# Altium footprint library MIZ.PcbLib: 8 footprints
Each footprint in its own frame and in the unit in brackets; x right, y up, seen from the top. Pads: shape width x height; smd on the part's side, far side on the other; paste and mask are expansions set on the pad; w line width, h text height; cw(c..) or ccw(c..) is an arc to the next point about the centre after c.
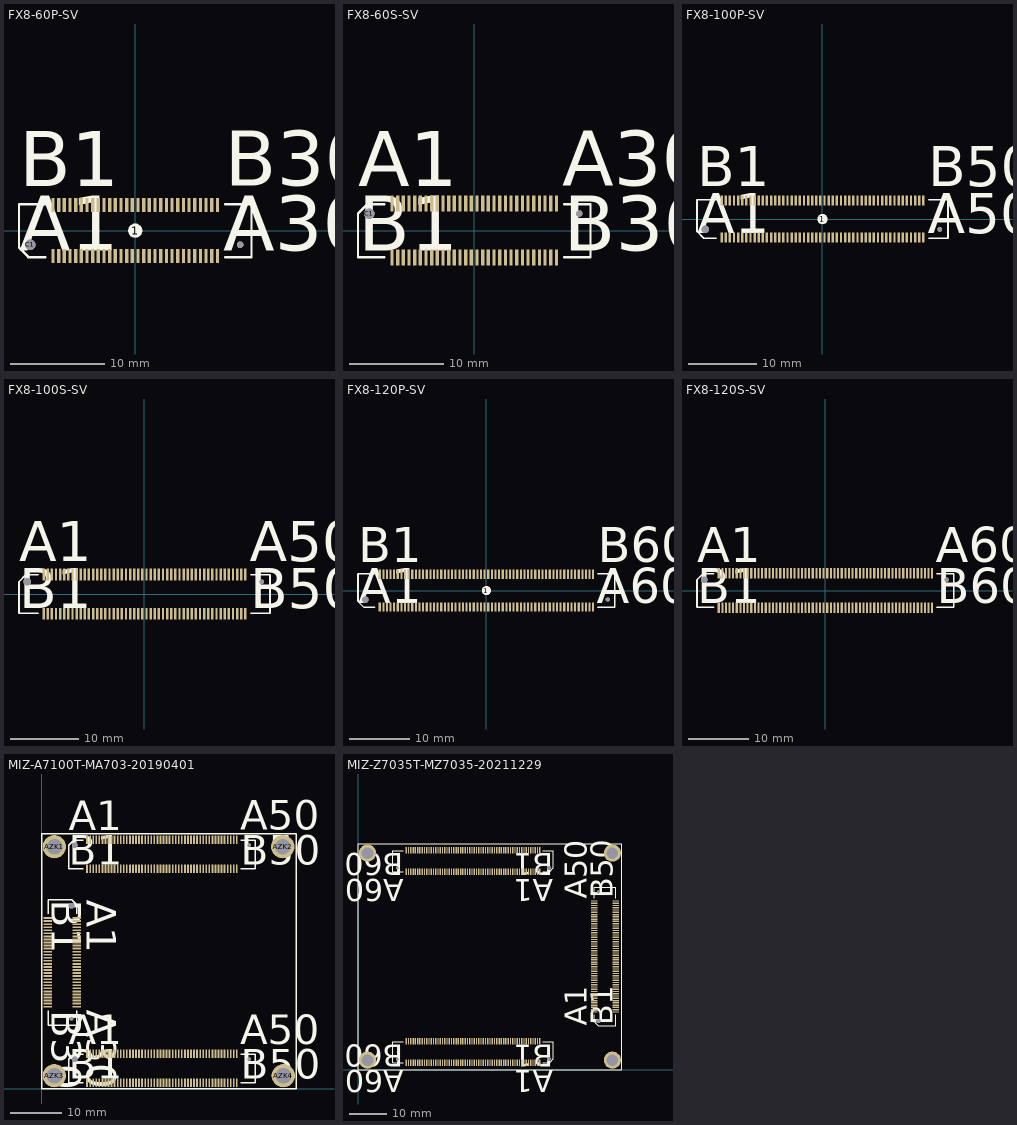
[diagram p0: the footprints below, top view; thin cyan lines are the x and y axes]

## FX8-60P-SV [mm]
pads (63):
  round 1.524 on Top Overlay: 1(0,0)
  rect 0.35x1.5 smd: A1(-8.7,-2.7) A2(-8.1,-2.7) A3(-7.5,-2.7) A4(-6.9,-2.7) A5(-6.3,-2.7) A6(-5.7,-2.7) A7(-5.1,-2.7) A8(-4.5,-2.7) A9(-3.9,-2.7) A10(-3.3,-2.7) A11(-2.7,-2.7) A12(-2.1,-2.7) A13(-1.5,-2.7) A14(-0.9,-2.7) A15(-0.3,-2.7) A16(0.3,-2.7) A17(0.9,-2.7) A18(1.5,-2.7) A19(2.1,-2.7) A20(2.7,-2.7) A21(3.3,-2.7) A22(3.9,-2.7) A23(4.5,-2.7) A24(5.1,-2.7) A25(5.7,-2.7) A26(6.3,-2.7) A27(6.9,-2.7) A28(7.5,-2.7) A29(8.1,-2.7) A30(8.7,-2.7) B1(-8.7,2.7) B2(-8.1,2.7) B3(-7.5,2.7) B4(-6.9,2.7) B5(-6.3,2.7) B6(-5.7,2.7) B7(-5.1,2.7) B8(-4.5,2.7) B9(-3.9,2.7) B10(-3.3,2.7) B11(-2.7,2.7) B12(-2.1,2.7) B13(-1.5,2.7) B14(-0.9,2.7) B15(-0.3,2.7) B16(0.3,2.7) B17(0.9,2.7) B18(1.5,2.7) B19(2.1,2.7) B20(2.7,2.7) B21(3.3,2.7) B22(3.9,2.7) B23(4.5,2.7) B24(5.1,2.7) B25(5.7,2.7) B26(6.3,2.7) B27(6.9,2.7) B28(7.5,2.7) B29(8.1,2.7) B30(8.7,2.7)
  round 1.1 hole 1.1: C1(-11.1,-1.5)
  round 0.7 hole 0.7: C2(11.1,-1.5)
Top Overlay:
  lines w0.254: -9.5,-2.8 -11.3,-2.8 -12.3,-1.8 -12.3,2.8 -9.5,2.8 ; 9.5,-2.8 12.3,-2.8 12.3,2.8 9.5,2.8
  text "B1" at -12.3,2.8 h10
  text "A30" at 9.328,-4.013 h10
  text "B30" at 9.448,2.819 h10
  text "A1" at -12.3,-4.013 h10

## FX8-60S-SV [mm]
pads (62):
  rect 0.35x1.7 smd: A1(-8.7,2.85) A2(-8.1,2.85) A3(-7.5,2.85) A4(-6.9,2.85) A5(-6.3,2.85) A6(-5.7,2.85) A7(-5.1,2.85) A8(-4.5,2.85) A9(-3.9,2.85) A10(-3.3,2.85) A11(-2.7,2.85) A12(-2.1,2.85) A13(-1.5,2.85) A14(-0.9,2.85) A15(-0.3,2.85) A16(0.3,2.85) A17(0.9,2.85) A18(1.5,2.85) A19(2.1,2.85) A20(2.7,2.85) A21(3.3,2.85) A22(3.9,2.85) A23(4.5,2.85) A24(5.1,2.85) A25(5.7,2.85) A26(6.3,2.85) A27(6.9,2.85) A28(7.5,2.85) A29(8.1,2.85) A30(8.7,2.85) B1(-8.7,-2.85) B2(-8.1,-2.85) B3(-7.5,-2.85) B4(-6.9,-2.85) B5(-6.3,-2.85) B6(-5.7,-2.85) B7(-5.1,-2.85) B8(-4.5,-2.85) B9(-3.9,-2.85) B10(-3.3,-2.85) B11(-2.7,-2.85) B12(-2.1,-2.85) B13(-1.5,-2.85) B14(-0.9,-2.85) B15(-0.3,-2.85) B16(0.3,-2.85) B17(0.9,-2.85) B18(1.5,-2.85) B19(2.1,-2.85) B20(2.7,-2.85) B21(3.3,-2.85) B22(3.9,-2.85) B23(4.5,-2.85) B24(5.1,-2.85) B25(5.7,-2.85) B26(6.3,-2.85) B27(6.9,-2.85) B28(7.5,-2.85) B29(8.1,-2.85) B30(8.7,-2.85)
  round 1.1 hole 1.1: C1(-11.1,1.8)
  round 0.7 hole 0.7: C2(11.1,1.8)
Top Overlay:
  lines w0.254: -9.5,-2.8 -12.3,-2.8 -12.3,1.8 -11.3,2.8 -9.5,2.8 ; 9.5,-2.8 12.3,-2.8 12.3,2.8 9.5,2.8
  text "A1" at -12.3,2.8 h10
  text "B30" at 9.448,-4.013 h10
  text "A30" at 9.328,2.819 h10
  text "B1" at -12.291,-4.013 h10

## FX8-100P-SV [mm]
pads (103):
  round 1.524 on Top Overlay: 1(0,0)
  rect 0.35x1.5 smd: A1(-14.7,-2.7) A2(-14.1,-2.7) A3(-13.5,-2.7) A4(-12.9,-2.7) A5(-12.3,-2.7) A6(-11.7,-2.7) A7(-11.1,-2.7) A8(-10.5,-2.7) A9(-9.9,-2.7) A10(-9.3,-2.7) A11(-8.7,-2.7) A12(-8.1,-2.7) A13(-7.5,-2.7) A14(-6.9,-2.7) A15(-6.3,-2.7) A16(-5.7,-2.7) A17(-5.1,-2.7) A18(-4.5,-2.7) A19(-3.9,-2.7) A20(-3.3,-2.7) A21(-2.7,-2.7) A22(-2.1,-2.7) A23(-1.5,-2.7) A24(-0.9,-2.7) A25(-0.3,-2.7) A26(0.3,-2.7) A27(0.9,-2.7) A28(1.5,-2.7) A29(2.1,-2.7) A30(2.7,-2.7) A31(3.3,-2.7) A32(3.9,-2.7) A33(4.5,-2.7) A34(5.1,-2.7) A35(5.7,-2.7) A36(6.3,-2.7) A37(6.9,-2.7) A38(7.5,-2.7) A39(8.1,-2.7) A40(8.7,-2.7) A41(9.3,-2.7) A42(9.9,-2.7) A43(10.5,-2.7) A44(11.1,-2.7) A45(11.7,-2.7) A46(12.3,-2.7) A47(12.9,-2.7) A48(13.5,-2.7) A49(14.1,-2.7) A50(14.7,-2.7) B1(-14.7,2.7) B2(-14.1,2.7) B3(-13.5,2.7) B4(-12.9,2.7) B5(-12.3,2.7) B6(-11.7,2.7) B7(-11.1,2.7) B8(-10.5,2.7) B9(-9.9,2.7) B10(-9.3,2.7) B11(-8.7,2.7) B12(-8.1,2.7) B13(-7.5,2.7) B14(-6.9,2.7) B15(-6.3,2.7) B16(-5.7,2.7) B17(-5.1,2.7) B18(-4.5,2.7) B19(-3.9,2.7) B20(-3.3,2.7) B21(-2.7,2.7) B22(-2.1,2.7) B23(-1.5,2.7) B24(-0.9,2.7) B25(-0.3,2.7) B26(0.3,2.7) B27(0.9,2.7) B28(1.5,2.7) B29(2.1,2.7) B30(2.7,2.7) B31(3.3,2.7) B32(3.9,2.7) B33(4.5,2.7) B34(5.1,2.7) B35(5.7,2.7) B36(6.3,2.7) B37(6.9,2.7) B38(7.5,2.7) B39(8.1,2.7) B40(8.7,2.7) B41(9.3,2.7) B42(9.9,2.7) B43(10.5,2.7) B44(11.1,2.7) B45(11.7,2.7) B46(12.3,2.7) B47(12.9,2.7) B48(13.5,2.7) B49(14.1,2.7) B50(14.7,2.7)
  round 1.1 hole 1.1: C1(-17.1,-1.5)
  round 0.7 hole 0.7: C2(17.1,-1.5)
Top Overlay:
  lines w0.254: -15.5,-2.8 -17.3,-2.8 -18.3,-1.8 -18.3,2.8 -15.5,2.8 ; 15.5,-2.8 18.3,-2.8 18.3,2.8 15.5,2.8
  text "A1" at -18.3,-4.013 h10
  text "B50" at 15.448,2.819 h10
  text "A50" at 15.328,-4.05 h10
  text "B1" at -18.3,2.8 h10

## FX8-100S-SV [mm]
pads (102):
  rect 0.35x1.7 smd: A1(-14.7,2.85) A2(-14.1,2.85) A3(-13.5,2.85) A4(-12.9,2.85) A5(-12.3,2.85) A6(-11.7,2.85) A7(-11.1,2.85) A8(-10.5,2.85) A9(-9.9,2.85) A10(-9.3,2.85) A11(-8.7,2.85) A12(-8.1,2.85) A13(-7.5,2.85) A14(-6.9,2.85) A15(-6.3,2.85) A16(-5.7,2.85) A17(-5.1,2.85) A18(-4.5,2.85) A19(-3.9,2.85) A20(-3.3,2.85) A21(-2.7,2.85) A22(-2.1,2.85) A23(-1.5,2.85) A24(-0.9,2.85) A25(-0.3,2.85) A26(0.3,2.85) A27(0.9,2.85) A28(1.5,2.85) A29(2.1,2.85) A30(2.7,2.85) A31(3.3,2.85) A32(3.9,2.85) A33(4.5,2.85) A34(5.1,2.85) A35(5.7,2.85) A36(6.3,2.85) A37(6.9,2.85) A38(7.5,2.85) A39(8.1,2.85) A40(8.7,2.85) A41(9.3,2.85) A42(9.9,2.85) A43(10.5,2.85) A44(11.1,2.85) A45(11.7,2.85) A46(12.3,2.85) A47(12.9,2.85) A48(13.5,2.85) A49(14.1,2.85) A50(14.7,2.85) B1(-14.7,-2.85) B2(-14.1,-2.85) B3(-13.5,-2.85) B4(-12.9,-2.85) B5(-12.3,-2.85) B6(-11.7,-2.85) B7(-11.1,-2.85) B8(-10.5,-2.85) B9(-9.9,-2.85) B10(-9.3,-2.85) B11(-8.7,-2.85) B12(-8.1,-2.85) B13(-7.5,-2.85) B14(-6.9,-2.85) B15(-6.3,-2.85) B16(-5.7,-2.85) B17(-5.1,-2.85) B18(-4.5,-2.85) B19(-3.9,-2.85) B20(-3.3,-2.85) B21(-2.7,-2.85) B22(-2.1,-2.85) B23(-1.5,-2.85) B24(-0.9,-2.85) B25(-0.3,-2.85) B26(0.3,-2.85) B27(0.9,-2.85) B28(1.5,-2.85) B29(2.1,-2.85) B30(2.7,-2.85) B31(3.3,-2.85) B32(3.9,-2.85) B33(4.5,-2.85) B34(5.1,-2.85) B35(5.7,-2.85) B36(6.3,-2.85) B37(6.9,-2.85) B38(7.5,-2.85) B39(8.1,-2.85) B40(8.7,-2.85) B41(9.3,-2.85) B42(9.9,-2.85) B43(10.5,-2.85) B44(11.1,-2.85) B45(11.7,-2.85) B46(12.3,-2.85) B47(12.9,-2.85) B48(13.5,-2.85) B49(14.1,-2.85) B50(14.7,-2.85)
  round 1.1 hole 1.1: C1(-17.1,1.8)
  round 0.7 hole 0.7: C2(17.1,1.8)
Top Overlay:
  lines w0.254: -15.5,-2.8 -18.3,-2.8 -18.3,1.8 -17.3,2.8 -15.5,2.8 ; 15.5,-2.8 18.3,-2.8 18.3,2.8 15.5,2.8
  text "A1" at -18.3,2.8 h10
  text "B50" at 15.448,-4.05 h10
  text "A50" at 15.328,2.819 h10
  text "B1" at -18.291,-4.013 h10

## FX8-120P-SV [mm]
pads (123):
  round 1.524 on Top Overlay: 1(0,0)
  rect 0.35x1.5 smd: A1(-17.7,-2.7) A2(-17.1,-2.7) A3(-16.5,-2.7) A4(-15.9,-2.7) A5(-15.3,-2.7) A6(-14.7,-2.7) A7(-14.1,-2.7) A8(-13.5,-2.7) A9(-12.9,-2.7) A10(-12.3,-2.7) A11(-11.7,-2.7) A12(-11.1,-2.7) A13(-10.5,-2.7) A14(-9.9,-2.7) A15(-9.3,-2.7) A16(-8.7,-2.7) A17(-8.1,-2.7) A18(-7.5,-2.7) A19(-6.9,-2.7) A20(-6.3,-2.7) A21(-5.7,-2.7) A22(-5.1,-2.7) A23(-4.5,-2.7) A24(-3.9,-2.7) A25(-3.3,-2.7) A26(-2.7,-2.7) A27(-2.1,-2.7) A28(-1.5,-2.7) A29(-0.9,-2.7) A30(-0.3,-2.7) A31(0.3,-2.7) A32(0.9,-2.7) A33(1.5,-2.7) A34(2.1,-2.7) A35(2.7,-2.7) A36(3.3,-2.7) A37(3.9,-2.7) A38(4.5,-2.7) A39(5.1,-2.7) A40(5.7,-2.7) A41(6.3,-2.7) A42(6.9,-2.7) A43(7.5,-2.7) A44(8.1,-2.7) A45(8.7,-2.7) A46(9.3,-2.7) A47(9.9,-2.7) A48(10.5,-2.7) A49(11.1,-2.7) A50(11.7,-2.7) A51(12.3,-2.7) A52(12.9,-2.7) A53(13.5,-2.7) A54(14.1,-2.7) A55(14.7,-2.7) A56(15.3,-2.7) A57(15.9,-2.7) A58(16.5,-2.7) A59(17.1,-2.7) A60(17.7,-2.7) B1(-17.7,2.7) B2(-17.1,2.7) B3(-16.5,2.7) B4(-15.9,2.7) B5(-15.3,2.7) B6(-14.7,2.7) B7(-14.1,2.7) B8(-13.5,2.7) B9(-12.9,2.7) B10(-12.3,2.7) B11(-11.7,2.7) B12(-11.1,2.7) B13(-10.5,2.7) B14(-9.9,2.7) B15(-9.3,2.7) B16(-8.7,2.7) B17(-8.1,2.7) B18(-7.5,2.7) B19(-6.9,2.7) B20(-6.3,2.7) B21(-5.7,2.7) B22(-5.1,2.7) B23(-4.5,2.7) B24(-3.9,2.7) B25(-3.3,2.7) B26(-2.7,2.7) B27(-2.1,2.7) B28(-1.5,2.7) B29(-0.9,2.7) B30(-0.3,2.7) B31(0.3,2.7) B32(0.9,2.7) B33(1.5,2.7) B34(2.1,2.7) B35(2.7,2.7) B36(3.3,2.7) B37(3.9,2.7) B38(4.5,2.7) B39(5.1,2.7) B40(5.7,2.7) B41(6.3,2.7) B42(6.9,2.7) B43(7.5,2.7) B44(8.1,2.7) B45(8.7,2.7) B46(9.3,2.7) B47(9.9,2.7) B48(10.5,2.7) B49(11.1,2.7) B50(11.7,2.7) B51(12.3,2.7) B52(12.9,2.7) B53(13.5,2.7) B54(14.1,2.7) B55(14.7,2.7) B56(15.3,2.7) B57(15.9,2.7) B58(16.5,2.7) B59(17.1,2.7) B60(17.7,2.7)
  round 1.1 hole 1.1: C1(-20.1,-1.5)
  round 0.7 hole 0.7: C2(20.1,-1.5)
Top Overlay:
  lines w0.254: -18.5,-2.8 -20.3,-2.8 -21.3,-1.8 -21.3,2.8 -18.5,2.8 ; 18.5,-2.8 21.3,-2.8 21.3,2.8 18.5,2.8
  text "A1" at -21.3,-4.013 h10
  text "B60" at 18.448,2.819 h10
  text "A60" at 18.328,-4.013 h10
  text "B1" at -21.3,2.8 h10

## FX8-120S-SV [mm]
pads (122):
  rect 0.35x1.7 smd: A1(-17.7,2.85) A2(-17.1,2.85) A3(-16.5,2.85) A4(-15.9,2.85) A5(-15.3,2.85) A6(-14.7,2.85) A7(-14.1,2.85) A8(-13.5,2.85) A9(-12.9,2.85) A10(-12.3,2.85) A11(-11.7,2.85) A12(-11.1,2.85) A13(-10.5,2.85) A14(-9.9,2.85) A15(-9.3,2.85) A16(-8.7,2.85) A17(-8.1,2.85) A18(-7.5,2.85) A19(-6.9,2.85) A20(-6.3,2.85) A21(-5.7,2.85) A22(-5.1,2.85) A23(-4.5,2.85) A24(-3.9,2.85) A25(-3.3,2.85) A26(-2.7,2.85) A27(-2.1,2.85) A28(-1.5,2.85) A29(-0.9,2.85) A30(-0.3,2.85) A31(0.3,2.85) A32(0.9,2.85) A33(1.5,2.85) A34(2.1,2.85) A35(2.7,2.85) A36(3.3,2.85) A37(3.9,2.85) A38(4.5,2.85) A39(5.1,2.85) A40(5.7,2.85) A41(6.3,2.85) A42(6.9,2.85) A43(7.5,2.85) A44(8.1,2.85) A45(8.7,2.85) A46(9.3,2.85) A47(9.9,2.85) A48(10.5,2.85) A49(11.1,2.85) A50(11.7,2.85) A51(12.3,2.85) A52(12.9,2.85) A53(13.5,2.85) A54(14.1,2.85) A55(14.7,2.85) A56(15.3,2.85) A57(15.9,2.85) A58(16.5,2.85) A59(17.1,2.85) A60(17.7,2.85) B1(-17.7,-2.85) B2(-17.1,-2.85) B3(-16.5,-2.85) B4(-15.9,-2.85) B5(-15.3,-2.85) B6(-14.7,-2.85) B7(-14.1,-2.85) B8(-13.5,-2.85) B9(-12.9,-2.85) B10(-12.3,-2.85) B11(-11.7,-2.85) B12(-11.1,-2.85) B13(-10.5,-2.85) B14(-9.9,-2.85) B15(-9.3,-2.85) B16(-8.7,-2.85) B17(-8.1,-2.85) B18(-7.5,-2.85) B19(-6.9,-2.85) B20(-6.3,-2.85) B21(-5.7,-2.85) B22(-5.1,-2.85) B23(-4.5,-2.85) B24(-3.9,-2.85) B25(-3.3,-2.85) B26(-2.7,-2.85) B27(-2.1,-2.85) B28(-1.5,-2.85) B29(-0.9,-2.85) B30(-0.3,-2.85) B31(0.3,-2.85) B32(0.9,-2.85) B33(1.5,-2.85) B34(2.1,-2.85) B35(2.7,-2.85) B36(3.3,-2.85) B37(3.9,-2.85) B38(4.5,-2.85) B39(5.1,-2.85) B40(5.7,-2.85) B41(6.3,-2.85) B42(6.9,-2.85) B43(7.5,-2.85) B44(8.1,-2.85) B45(8.7,-2.85) B46(9.3,-2.85) B47(9.9,-2.85) B48(10.5,-2.85) B49(11.1,-2.85) B50(11.7,-2.85) B51(12.3,-2.85) B52(12.9,-2.85) B53(13.5,-2.85) B54(14.1,-2.85) B55(14.7,-2.85) B56(15.3,-2.85) B57(15.9,-2.85) B58(16.5,-2.85) B59(17.1,-2.85) B60(17.7,-2.85)
  round 1.1 hole 1.1: C1(-20.1,1.8)
  round 0.7 hole 0.7: C2(20.1,1.8)
Top Overlay:
  lines w0.254: -18.5,-2.8 -21.3,-2.8 -21.3,1.8 -20.3,2.8 -18.5,2.8 ; 18.5,-2.8 21.3,-2.8 21.3,2.8 18.5,2.8
  text "A1" at -21.3,2.8 h10
  text "B60" at 18.448,-4.013 h10
  text "A60" at 18.328,2.819 h10
  text "B1" at -21.291,-4.013 h10

## MIZ-A7100T-MA703-20190401 [mm]
pads (270):
  round 4.57 hole 3.1: AZK1(2.502,47.498) AZK2(47.333,47.498) AZK3(2.502,2.54) AZK4(47.46,2.54)
  rect 0.35x1.7 smd: Y-A1(8.922,48.857) Y-A2(9.522,48.857) Y-A3(10.122,48.857) Y-A4(10.722,48.857) Y-A5(11.322,48.857) Y-A6(11.922,48.857) Y-A7(12.522,48.857) Y-A8(13.122,48.857) Y-A9(13.722,48.857) Y-A10(14.322,48.857) Y-A11(14.922,48.857) Y-A12(15.522,48.857) Y-A13(16.122,48.857) Y-A14(16.722,48.857) Y-A15(17.322,48.857) Y-A16(17.922,48.857) Y-A17(18.522,48.857) Y-A18(19.122,48.857) Y-A19(19.722,48.857) Y-A20(20.322,48.857) Y-A21(20.922,48.857) Y-A22(21.522,48.857) Y-A23(22.122,48.857) Y-A24(22.722,48.857) Y-A25(23.322,48.857) Y-A26(23.922,48.857) Y-A27(24.522,48.857) Y-A28(25.122,48.857) Y-A29(25.722,48.857) Y-A30(26.322,48.857) Y-A31(26.922,48.857) Y-A32(27.522,48.857) Y-A33(28.122,48.857) Y-A34(28.722,48.857) Y-A35(29.322,48.857) Y-A36(29.922,48.857) Y-A37(30.522,48.857) Y-A38(31.122,48.857) Y-A39(31.722,48.857) Y-A40(32.322,48.857) Y-A41(32.922,48.857) Y-A42(33.522,48.857) Y-A43(34.122,48.857) Y-A44(34.722,48.857) Y-A45(35.322,48.857) Y-A46(35.922,48.857) Y-A47(36.522,48.857) Y-A48(37.122,48.857) Y-A49(37.722,48.857) Y-A50(38.322,48.857) Y-B1(8.922,43.157) Y-B2(9.522,43.157) Y-B3(10.122,43.157) Y-B4(10.722,43.157) Y-B5(11.322,43.157) Y-B6(11.922,43.157) Y-B7(12.522,43.157) Y-B8(13.122,43.157) Y-B9(13.722,43.157) Y-B10(14.322,43.157) Y-B11(14.922,43.157) Y-B12(15.522,43.157) Y-B13(16.122,43.157) Y-B14(16.722,43.157) Y-B15(17.322,43.157) Y-B16(17.922,43.157) Y-B17(18.522,43.157) Y-B18(19.122,43.157) Y-B19(19.722,43.157) Y-B20(20.322,43.157) Y-B21(20.922,43.157) Y-B22(21.522,43.157) Y-B23(22.122,43.157) Y-B24(22.722,43.157) Y-B25(23.322,43.157) Y-B26(23.922,43.157) Y-B27(24.522,43.157) Y-B28(25.122,43.157) Y-B29(25.722,43.157) Y-B30(26.322,43.157) Y-B31(26.922,43.157) Y-B32(27.522,43.157) Y-B33(28.122,43.157) Y-B34(28.722,43.157) Y-B35(29.322,43.157) Y-B36(29.922,43.157) Y-B37(30.522,43.157) Y-B38(31.122,43.157) Y-B39(31.722,43.157) Y-B40(32.322,43.157) Y-B41(32.922,43.157) Y-B42(33.522,43.157) Y-B43(34.122,43.157) Y-B44(34.722,43.157) Y-B45(35.322,43.157) Y-B46(35.922,43.157) Y-B47(36.522,43.157) Y-B48(37.122,43.157) Y-B49(37.722,43.157) Y-B50(38.322,43.157) Z-A1(8.922,6.82) Z-A2(9.522,6.82) Z-A3(10.122,6.82) Z-A4(10.722,6.82) Z-A5(11.322,6.82) Z-A6(11.922,6.82) Z-A7(12.522,6.82) Z-A8(13.122,6.82) Z-A9(13.722,6.82) Z-A10(14.322,6.82) Z-A11(14.922,6.82) Z-A12(15.522,6.82) Z-A13(16.122,6.82) Z-A14(16.722,6.82) Z-A15(17.322,6.82) Z-A16(17.922,6.82) Z-A17(18.522,6.82) Z-A18(19.122,6.82) Z-A19(19.722,6.82) Z-A20(20.322,6.82) Z-A21(20.922,6.82) Z-A22(21.522,6.82) Z-A23(22.122,6.82) Z-A24(22.722,6.82) Z-A25(23.322,6.82) Z-A26(23.922,6.82) Z-A27(24.522,6.82) Z-A28(25.122,6.82) Z-A29(25.722,6.82) Z-A30(26.322,6.82) Z-A31(26.922,6.82) Z-A32(27.522,6.82) Z-A33(28.122,6.82) Z-A34(28.722,6.82) Z-A35(29.322,6.82) Z-A36(29.922,6.82) Z-A37(30.522,6.82) Z-A38(31.122,6.82) Z-A39(31.722,6.82) Z-A40(32.322,6.82) Z-A41(32.922,6.82) Z-A42(33.522,6.82) Z-A43(34.122,6.82) Z-A44(34.722,6.82) Z-A45(35.322,6.82) Z-A46(35.922,6.82) Z-A47(36.522,6.82) Z-A48(37.122,6.82) Z-A49(37.722,6.82) Z-A50(38.322,6.82) Z-B1(8.922,1.12) Z-B2(9.522,1.12) Z-B3(10.122,1.12) Z-B4(10.722,1.12) Z-B5(11.322,1.12) Z-B6(11.922,1.12) Z-B7(12.522,1.12) Z-B8(13.122,1.12) Z-B9(13.722,1.12) Z-B10(14.322,1.12) Z-B11(14.922,1.12) Z-B12(15.522,1.12) Z-B13(16.122,1.12) Z-B14(16.722,1.12) Z-B15(17.322,1.12) Z-B16(17.922,1.12) Z-B17(18.522,1.12) Z-B18(19.122,1.12) Z-B19(19.722,1.12) Z-B20(20.322,1.12) Z-B21(20.922,1.12) Z-B22(21.522,1.12) Z-B23(22.122,1.12) Z-B24(22.722,1.12) Z-B25(23.322,1.12) Z-B26(23.922,1.12) Z-B27(24.522,1.12) Z-B28(25.122,1.12) Z-B29(25.722,1.12) Z-B30(26.322,1.12) Z-B31(26.922,1.12) Z-B32(27.522,1.12) Z-B33(28.122,1.12) Z-B34(28.722,1.12) Z-B35(29.322,1.12) Z-B36(29.922,1.12) Z-B37(30.522,1.12) Z-B38(31.122,1.12) Z-B39(31.722,1.12) Z-B40(32.322,1.12) Z-B41(32.922,1.12) Z-B42(33.522,1.12) Z-B43(34.122,1.12) Z-B44(34.722,1.12) Z-B45(35.322,1.12) Z-B46(35.922,1.12) Z-B47(36.522,1.12) Z-B48(37.122,1.12) Z-B49(37.722,1.12) Z-B50(38.322,1.12)
  round 1.1 hole 1.1: Y-C1(6.522,47.807) Z-C1(6.522,5.77) ZH-C1(5.859,35.885)
  round 0.7 hole 0.7: Y-C2(40.722,47.807) Z-C2(40.722,5.77) ZH-C2(5.859,13.685)
  rect 1.7x0.35 smd: ZH-A1(6.909,33.485) ZH-A2(6.909,32.885) ZH-A3(6.909,32.285) ZH-A4(6.909,31.685) ZH-A5(6.909,31.085) ZH-A6(6.909,30.485) ZH-A7(6.909,29.885) ZH-A8(6.909,29.285) ZH-A9(6.909,28.685) ZH-A10(6.909,28.085) ZH-A11(6.909,27.485) ZH-A12(6.909,26.885) ZH-A13(6.909,26.285) ZH-A14(6.909,25.685) ZH-A15(6.909,25.085) ZH-A16(6.909,24.485) ZH-A17(6.909,23.885) ZH-A18(6.909,23.285) ZH-A19(6.909,22.685) ZH-A20(6.909,22.085) ZH-A21(6.909,21.485) ZH-A22(6.909,20.885) ZH-A23(6.909,20.285) ZH-A24(6.909,19.685) ZH-A25(6.909,19.085) ZH-A26(6.909,18.485) ZH-A27(6.909,17.885) ZH-A28(6.909,17.285) ZH-A29(6.909,16.685) ZH-A30(6.909,16.085) ZH-B1(1.209,33.485) ZH-B2(1.209,32.885) ZH-B3(1.209,32.285) ZH-B4(1.209,31.685) ZH-B5(1.209,31.085) ZH-B6(1.209,30.485) ZH-B7(1.209,29.885) ZH-B8(1.209,29.285) ZH-B9(1.209,28.685) ZH-B10(1.209,28.085) ZH-B11(1.209,27.485) ZH-B12(1.209,26.885) ZH-B13(1.209,26.285) ZH-B14(1.209,25.685) ZH-B15(1.209,25.085) ZH-B16(1.209,24.485) ZH-B17(1.209,23.885) ZH-B18(1.209,23.285) ZH-B19(1.209,22.685) ZH-B20(1.209,22.085) ZH-B21(1.209,21.485) ZH-B22(1.209,20.885) ZH-B23(1.209,20.285) ZH-B24(1.209,19.685) ZH-B25(1.209,19.085) ZH-B26(1.209,18.485) ZH-B27(1.209,17.885) ZH-B28(1.209,17.285) ZH-B29(1.209,16.685) ZH-B30(1.209,16.085)
Top Overlay:
  lines w0.254: 1.259,15.285 1.259,12.485 6.859,12.485 6.859,15.285 ; 1.259,34.285 1.259,37.085 5.859,37.085 6.859,36.085 6.859,34.285 ; 8.122,1.17 5.322,1.17 5.322,5.77 6.322,6.77 8.122,6.77 ; 8.122,43.207 5.322,43.207 5.322,47.807 6.322,48.807 8.122,48.807 ; 39.122,1.17 41.922,1.17 41.922,6.77 39.122,6.77 ; 39.122,43.207 41.922,43.207 41.922,48.807 39.122,48.807 ; 0,0 50,0 50,50 0,50 0,0
  text "B1" at 5.331,-0.043 h10
  text "A50" at 38.95,6.789 h10
  text "B50" at 39.07,-0.08 h10
  text "A1" at 5.322,6.77 h10
  text "B1" at 5.331,41.994 h10
  text "A50" at 38.95,48.826 h10
  text "B50" at 39.07,41.957 h10
  text "A1" at 5.322,48.807 h10
  text "B1" at 0.046,37.076 h10
  text "A30" at 6.878,15.457 h10
  text "B30" at 0.046,15.337 h10
  text "A1" at 6.859,37.085 h10

## MIZ-Z7035T-MZ7035-20211229 [mm]
pads (350):
  round 4.57 hole 3.1: AZK1(2.54,57.429) AZK2(67.437,57.429) AZK3(2.54,2.54) AZK4(67.437,2.54)
  rect 0.35x1.7 smd: Y-A1(48.209,1.806) Y-A2(47.609,1.806) Y-A3(47.009,1.806) Y-A4(46.409,1.806) Y-A5(45.809,1.806) Y-A6(45.209,1.806) Y-A7(44.609,1.806) Y-A8(44.009,1.806) Y-A9(43.409,1.806) Y-A10(42.809,1.806) Y-A11(42.209,1.806) Y-A12(41.609,1.806) Y-A13(41.009,1.806) Y-A14(40.409,1.806) Y-A15(39.809,1.806) Y-A16(39.209,1.806) Y-A17(38.609,1.806) Y-A18(38.009,1.806) Y-A19(37.409,1.806) Y-A20(36.809,1.806) Y-A21(36.209,1.806) Y-A22(35.609,1.806) Y-A23(35.009,1.806) Y-A24(34.409,1.806) Y-A25(33.809,1.806) Y-A26(33.209,1.806) Y-A27(32.609,1.806) Y-A28(32.009,1.806) Y-A29(31.409,1.806) Y-A30(30.809,1.806) Y-A31(30.209,1.806) Y-A32(29.609,1.806) Y-A33(29.009,1.806) Y-A34(28.409,1.806) Y-A35(27.809,1.806) Y-A36(27.209,1.806) Y-A37(26.609,1.806) Y-A38(26.009,1.806) Y-A39(25.409,1.806) Y-A40(24.809,1.806) Y-A41(24.209,1.806) Y-A42(23.609,1.806) Y-A43(23.009,1.806) Y-A44(22.409,1.806) Y-A45(21.809,1.806) Y-A46(21.209,1.806) Y-A47(20.609,1.806) Y-A48(20.009,1.806) Y-A49(19.409,1.806) Y-A50(18.809,1.806) Y-A51(18.209,1.806) Y-A52(17.609,1.806) Y-A53(17.009,1.806) Y-A54(16.409,1.806) Y-A55(15.809,1.806) Y-A56(15.209,1.806) Y-A57(14.609,1.806) Y-A58(14.009,1.806) Y-A59(13.409,1.806) Y-A60(12.809,1.806) Y-B1(48.209,7.506) Y-B2(47.609,7.506) Y-B3(47.009,7.506) Y-B4(46.409,7.506) Y-B5(45.809,7.506) Y-B6(45.209,7.506) Y-B7(44.609,7.506) Y-B8(44.009,7.506) Y-B9(43.409,7.506) Y-B10(42.809,7.506) Y-B11(42.209,7.506) Y-B12(41.609,7.506) Y-B13(41.009,7.506) Y-B14(40.409,7.506) Y-B15(39.809,7.506) Y-B16(39.209,7.506) Y-B17(38.609,7.506) Y-B18(38.009,7.506) Y-B19(37.409,7.506) Y-B20(36.809,7.506) Y-B21(36.209,7.506) Y-B22(35.609,7.506) Y-B23(35.009,7.506) Y-B24(34.409,7.506) Y-B25(33.809,7.506) Y-B26(33.209,7.506) Y-B27(32.609,7.506) Y-B28(32.009,7.506) Y-B29(31.409,7.506) Y-B30(30.809,7.506) Y-B31(30.209,7.506) Y-B32(29.609,7.506) Y-B33(29.009,7.506) Y-B34(28.409,7.506) Y-B35(27.809,7.506) Y-B36(27.209,7.506) Y-B37(26.609,7.506) Y-B38(26.009,7.506) Y-B39(25.409,7.506) Y-B40(24.809,7.506) Y-B41(24.209,7.506) Y-B42(23.609,7.506) Y-B43(23.009,7.506) Y-B44(22.409,7.506) Y-B45(21.809,7.506) Y-B46(21.209,7.506) Y-B47(20.609,7.506) Y-B48(20.009,7.506) Y-B49(19.409,7.506) Y-B50(18.809,7.506) Y-B51(18.209,7.506) Y-B52(17.609,7.506) Y-B53(17.009,7.506) Y-B54(16.409,7.506) Y-B55(15.809,7.506) Y-B56(15.209,7.506) Y-B57(14.609,7.506) Y-B58(14.009,7.506) Y-B59(13.409,7.506) Y-B60(12.809,7.506) Z-A1(48.209,52.464) Z-A2(47.609,52.464) Z-A3(47.009,52.464) Z-A4(46.409,52.464) Z-A5(45.809,52.464) Z-A6(45.209,52.464) Z-A7(44.609,52.464) Z-A8(44.009,52.464) Z-A9(43.409,52.464) Z-A10(42.809,52.464) Z-A11(42.209,52.464) Z-A12(41.609,52.464) Z-A13(41.009,52.464) Z-A14(40.409,52.464) Z-A15(39.809,52.464) Z-A16(39.209,52.464) Z-A17(38.609,52.464) Z-A18(38.009,52.464) Z-A19(37.409,52.464) Z-A20(36.809,52.464) Z-A21(36.209,52.464) Z-A22(35.609,52.464) Z-A23(35.009,52.464) Z-A24(34.409,52.464) Z-A25(33.809,52.464) Z-A26(33.209,52.464) Z-A27(32.609,52.464) Z-A28(32.009,52.464) Z-A29(31.409,52.464) Z-A30(30.809,52.464) Z-A31(30.209,52.464) Z-A32(29.609,52.464) Z-A33(29.009,52.464) Z-A34(28.409,52.464) Z-A35(27.809,52.464) Z-A36(27.209,52.464) Z-A37(26.609,52.464) Z-A38(26.009,52.464) Z-A39(25.409,52.464) Z-A40(24.809,52.464) Z-A41(24.209,52.464) Z-A42(23.609,52.464) Z-A43(23.009,52.464) Z-A44(22.409,52.464) Z-A45(21.809,52.464) Z-A46(21.209,52.464) Z-A47(20.609,52.464) Z-A48(20.009,52.464) Z-A49(19.409,52.464) Z-A50(18.809,52.464) Z-A51(18.209,52.464) Z-A52(17.609,52.464) Z-A53(17.009,52.464) Z-A54(16.409,52.464) Z-A55(15.809,52.464) Z-A56(15.209,52.464) Z-A57(14.609,52.464) Z-A58(14.009,52.464) Z-A59(13.409,52.464) Z-A60(12.809,52.464) Z-B1(48.209,58.164) Z-B2(47.609,58.164) Z-B3(47.009,58.164) Z-B4(46.409,58.164) Z-B5(45.809,58.164) Z-B6(45.209,58.164) Z-B7(44.609,58.164) Z-B8(44.009,58.164) Z-B9(43.409,58.164) Z-B10(42.809,58.164) Z-B11(42.209,58.164) Z-B12(41.609,58.164) Z-B13(41.009,58.164) Z-B14(40.409,58.164) Z-B15(39.809,58.164) Z-B16(39.209,58.164) Z-B17(38.609,58.164) Z-B18(38.009,58.164) Z-B19(37.409,58.164) Z-B20(36.809,58.164) Z-B21(36.209,58.164) Z-B22(35.609,58.164) Z-B23(35.009,58.164) Z-B24(34.409,58.164) Z-B25(33.809,58.164) Z-B26(33.209,58.164) Z-B27(32.609,58.164) Z-B28(32.009,58.164) Z-B29(31.409,58.164) Z-B30(30.809,58.164) Z-B31(30.209,58.164) Z-B32(29.609,58.164) Z-B33(29.009,58.164) Z-B34(28.409,58.164) Z-B35(27.809,58.164) Z-B36(27.209,58.164) Z-B37(26.609,58.164) Z-B38(26.009,58.164) Z-B39(25.409,58.164) Z-B40(24.809,58.164) Z-B41(24.209,58.164) Z-B42(23.609,58.164) Z-B43(23.009,58.164) Z-B44(22.409,58.164) Z-B45(21.809,58.164) Z-B46(21.209,58.164) Z-B47(20.609,58.164) Z-B48(20.009,58.164) Z-B49(19.409,58.164) Z-B50(18.809,58.164) Z-B51(18.209,58.164) Z-B52(17.609,58.164) Z-B53(17.009,58.164) Z-B54(16.409,58.164) Z-B55(15.809,58.164) Z-B56(15.209,58.164) Z-B57(14.609,58.164) Z-B58(14.009,58.164) Z-B59(13.409,58.164) Z-B60(12.809,58.164)
  rect 1.7x0.35 smd: ZH-A1(62.633,15.329) ZH-A2(62.633,15.929) ZH-A3(62.633,16.529) ZH-A4(62.633,17.129) ZH-A5(62.633,17.729) ZH-A6(62.633,18.329) ZH-A7(62.633,18.929) ZH-A8(62.633,19.529) ZH-A9(62.633,20.129) ZH-A10(62.633,20.729) ZH-A11(62.633,21.329) ZH-A12(62.633,21.929) ZH-A13(62.633,22.529) ZH-A14(62.633,23.129) ZH-A15(62.633,23.729) ZH-A16(62.633,24.329) ZH-A17(62.633,24.929) ZH-A18(62.633,25.529) ZH-A19(62.633,26.129) ZH-A20(62.633,26.729) ZH-A21(62.633,27.329) ZH-A22(62.633,27.929) ZH-A23(62.633,28.529) ZH-A24(62.633,29.129) ZH-A25(62.633,29.729) ZH-A26(62.633,30.329) ZH-A27(62.633,30.929) ZH-A28(62.633,31.529) ZH-A29(62.633,32.129) ZH-A30(62.633,32.729) ZH-A31(62.633,33.329) ZH-A32(62.633,33.929) ZH-A33(62.633,34.529) ZH-A34(62.633,35.129) ZH-A35(62.633,35.729) ZH-A36(62.633,36.329) ZH-A37(62.633,36.929) ZH-A38(62.633,37.529) ZH-A39(62.633,38.129) ZH-A40(62.633,38.729) ZH-A41(62.633,39.329) ZH-A42(62.633,39.929) ZH-A43(62.633,40.529) ZH-A44(62.633,41.129) ZH-A45(62.633,41.729) ZH-A46(62.633,42.329) ZH-A47(62.633,42.929) ZH-A48(62.633,43.529) ZH-A49(62.633,44.129) ZH-A50(62.633,44.729) ZH-B1(68.333,15.329) ZH-B2(68.333,15.929) ZH-B3(68.333,16.529) ZH-B4(68.333,17.129) ZH-B5(68.333,17.729) ZH-B6(68.333,18.329) ZH-B7(68.333,18.929) ZH-B8(68.333,19.529) ZH-B9(68.333,20.129) ZH-B10(68.333,20.729) ZH-B11(68.333,21.329) ZH-B12(68.333,21.929) ZH-B13(68.333,22.529) ZH-B14(68.333,23.129) ZH-B15(68.333,23.729) ZH-B16(68.333,24.329) ZH-B17(68.333,24.929) ZH-B18(68.333,25.529) ZH-B19(68.333,26.129) ZH-B20(68.333,26.729) ZH-B21(68.333,27.329) ZH-B22(68.333,27.929) ZH-B23(68.333,28.529) ZH-B24(68.333,29.129) ZH-B25(68.333,29.729) ZH-B26(68.333,30.329) ZH-B27(68.333,30.929) ZH-B28(68.333,31.529) ZH-B29(68.333,32.129) ZH-B30(68.333,32.729) ZH-B31(68.333,33.329) ZH-B32(68.333,33.929) ZH-B33(68.333,34.529) ZH-B34(68.333,35.129) ZH-B35(68.333,35.729) ZH-B36(68.333,36.329) ZH-B37(68.333,36.929) ZH-B38(68.333,37.529) ZH-B39(68.333,38.129) ZH-B40(68.333,38.729) ZH-B41(68.333,39.329) ZH-B42(68.333,39.929) ZH-B43(68.333,40.529) ZH-B44(68.333,41.129) ZH-B45(68.333,41.729) ZH-B46(68.333,42.329) ZH-B47(68.333,42.929) ZH-B48(68.333,43.529) ZH-B49(68.333,44.129) ZH-B50(68.333,44.729)
  round 0.7 hole 0.7: ""(10.409,2.856) ""(10.409,53.514) ""(63.683,47.129)
  round 1.1 hole 1.1: ""(50.609,2.856) ""(50.609,53.514) ""(63.683,12.929)
Top Overlay:
  lines w0.254: 12.009,1.856 9.209,1.856 9.209,7.456 12.009,7.456 ; 12.009,52.514 9.209,52.514 9.209,58.114 12.009,58.114 ; 49.009,1.856 50.809,1.856 51.809,2.856 51.809,7.456 49.009,7.456 ; 49.009,52.514 50.809,52.514 51.809,53.514 51.809,58.114 49.009,58.114 ; 62.683,14.529 62.683,12.729 63.683,11.729 68.283,11.729 68.283,14.529 ; 62.683,45.529 62.683,48.329 68.283,48.329 68.283,45.529 ; 0,0 0,59.969 69.977,59.969 69.977,0 0,0
  text "A1" at 62.683,11.729 h10
  text "B50" at 69.532,45.477 h10
  text "A50" at 62.664,45.357 h10
  text "B1" at 69.495,11.738 h10
  text "A1" at 51.809,52.514 h10
  text "B60" at 12.061,59.326 h10
  text "A60" at 12.181,52.495 h10
  text "B1" at 51.8,59.326 h10
  text "B1" at 51.8,8.669 h10
  text "A60" at 12.181,1.837 h10
  text "B60" at 12.061,8.669 h10
  text "A1" at 51.809,1.856 h10